# Altium footprint library srn_2_815x790x400.PcbLib: 1 footprints
Each footprint in its own frame and in the unit in brackets; x right, y up, seen from the top. Pads: shape width x height; smd on the part's side, far side on the other; paste and mask are expansions set on the pad; w line width, h text height; cw(c..) or ccw(c..) is an arc to the next point about the centre after c.
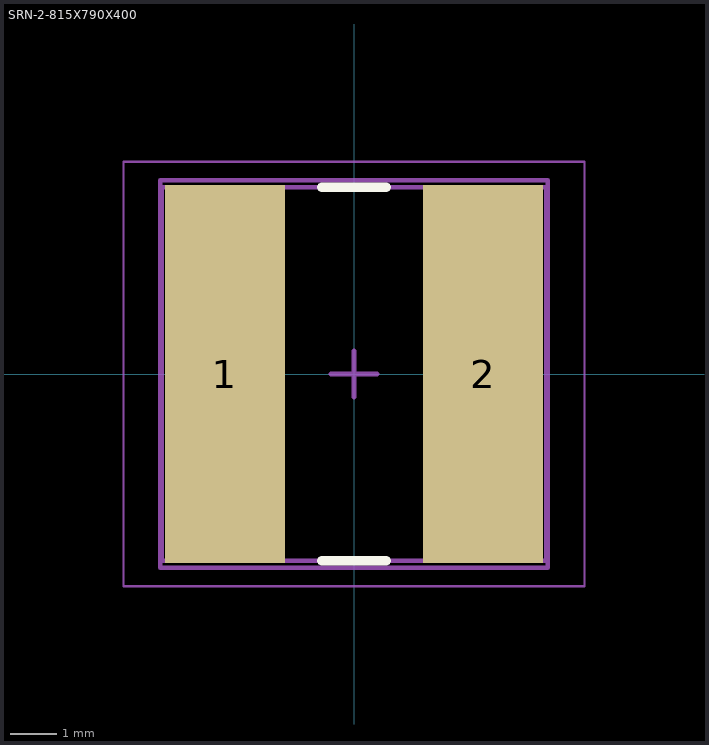
[diagram p0: the footprint, top view; thin cyan lines are the x and y axes]

## SRN-2-815X790X400 [mm]
height 4
pads (2):
  rect 2.6x8.2 smd: 1(-2.8,0) 2(2.8,0)
Top Overlay:
  lines w0.2: -0.7,-4.05 0.7,-4.05 ; -0.7,4.05 0.7,4.05
Top Comment:
  text ".Comment" at 1,5 h1.2
Top Designator:
  text ".Designator" at -0.5,5 h1.2
Top Component Outline:
  lines w0.1: -4.2,-4.2 -4.2,4.2 4.2,4.2 4.2,-4.2 -4.2,-4.2
Top 3D Body:
  lines w0.1: -4.175,-4.05 -4.175,4.05 4.175,4.05 4.175,-4.05 -4.175,-4.05
Top Courtyard (Mech15):
  lines w0.05: -5,-4.6 -5,4.6 5,4.6 5,-4.6 -5,-4.6
  lines w0.1: -0.5,0 0.5,0 ; 0,-0.5 0,0.5
3D body "SRN8040.STEP": height 4, standoff 0, extent -4.009,-4 4.009,4